# Altium schematic symbol library MSL0201RGBW1.Schlib: 1 symbol
Pins are listed as number, name and electrical type; pins without a type are passive.

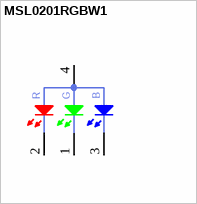
[diagram p0: symbol MSL0201RGBW1]

## MSL0201RGBW1
designator U?
High Luminous PLCC4 Top SMD LEDs
pins: 1 AG, 2 R, 3 AB, 4 CC
text: G; B